# Altium schematic symbol library NEC.SchLib: 4 symbols
Pins are listed as number, name and electrical type; pins without a type are passive.

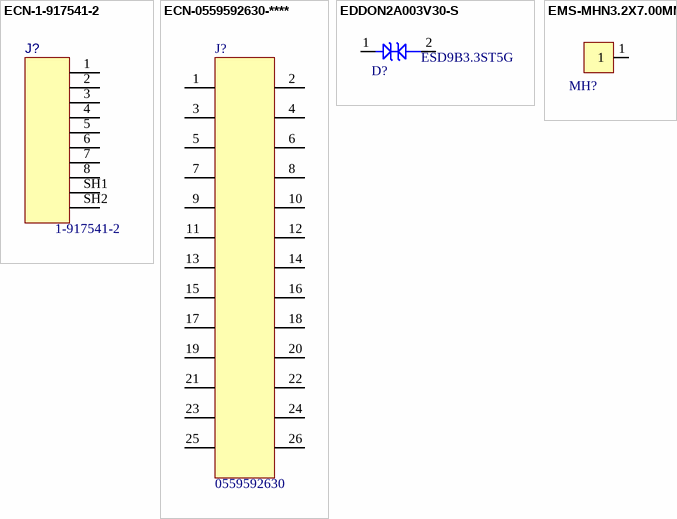
[diagram p0: symbols ECN-1-917541-2 to EMS-MHN3.2X7.00MM]

## ECN-1-917541-2
designator J?, comment value 1-917541-2  (hidden comment: Connector Header Through Hole, Right Angle 4 position 0.400" (10.16mm))
Manufacturer: TE Connectivity AMP Connectors; Internal Part Number: ECN-1-917541-2; Vendor Part Number: A29703-ND; Component Height (mm): 0.547" (13.90mm); Temp Co: -55°C ~ 105°C; 4th Auxiliary Field: RoHS Compliant; Vendor Name: Digi-Key; 1st Auxiliary Field: Shrouded - 4 Wall; Manufacturer Part Number: 1-917541-2; 3rd Auxiliary Field: 0.400" (10.16mm); Part Type: Connector Header Through Hole, Right Angle 4 position 0.400" (10.16mm); 2nd Auxiliary Field: Through Hole, Right Angle
footprint TE_1-917541-2
pins: 1, 2, 3, 4, 5, 6, 7, 8, SH1, SH2

## ECN-0559592630-****
designator J?, comment value 0559592630  (hidden comment: CONN HEADER R/A 26POS 2MM)
Vendor Part Number: WM12310-ND; Manufacturer: Molex; Internal Part Number: ECN-0559592630-****; 2nd Auxiliary Field: 2.00mm; 3rd Auxiliary Field: RoHS Compliant; Vendor Name: Digi-Key; Component Height (mm): 11.7mm; Part Type: CONN HEADER R/A 26POS 2MM; 1st Auxiliary Field: 26POS; 4th Auxiliary Field: *; Temp Co: *; Manufacturer Part Number: 0559592630
footprint MOLEX_0559592630
pins: 1, 2, 3, 4, 5, 6, 7, 8, 9, 10, 11, 12, 13, 14, 15, 16, 17, 18, 19, 20, 21, 22, 23, 24, 25, 26

## EDDON2A003V30-S
designator D?, comment value ESD9B3.3ST5G  (hidden comment: TVS DIODE 3.3V 11.5V SOD923)
Internal Part Number: EDDON2A003V30-S; Manufacturer: ON Semiconductor; Vendor Part Number: ESD9B3.3ST5GOSCT-ND; 2nd Auxiliary Field: 2A; 3rd Auxiliary Field: ROHS3 Compliant; Component Height (mm): 0.4mm; Temp Co: -55°C ~ 150°C (TJ); Vendor Name: Digi-Key; 4th Auxiliary Field: *; Manufacturer Part Number: ESD9B3.3ST5G; Part Type: TVS DIODE 3.3V 11.5V SOD923; 1st Auxiliary Field: 3.3V
footprint SODFL8480X40
pins: 1, 2

## EMS-MHN3.2X7.00MM
designator MH?, comment Mounting hole  (value not drawn)
Internal Part Number: EMS-MHN3.2X7.00MM; Manufacturer: *; Manufacturer Part Number: *
footprint MH_PTH_320H
pins: 1